# EAGLE library part BC856BDW1T1G_D (library transistor-pnp)
Dual PNP Transistor
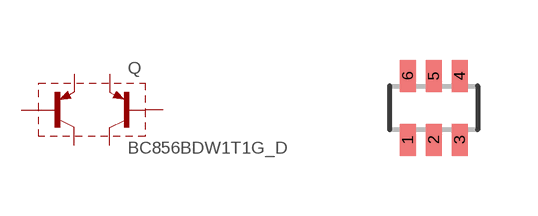
[diagram p1: symbol with the pads of SOT363; footprint SOT363]

Designator prefix Q

## BC856BDW1T1G_D (DIGIKEY: DMN3404LDICT-ND; P1I: o)  [SOT363]
1  E2  pas
2  B2  pas
3  C1  pas
4  E1  pas
5  B1  pas
6  C2  pas

## Footprint SOT363 (pad centres in mm)
Small Outline Transistor; 6 leads
smd 0.4 x 0.8: 1 -0.65,-0.8; 2 0,-0.8; 3 0.65,-0.8; 4 0.65,0.8; 5 0,0.8; 6 -0.65,0.8